# EAGLE library part DP83848C (library MainBoard)
National Semiconductor DP83848C PHYTER Single Port 10/100 Mb/s Ethernet Physical Layer Transceiver. Source: http://cache.national.com/ds/DP/DP83848C.pdf
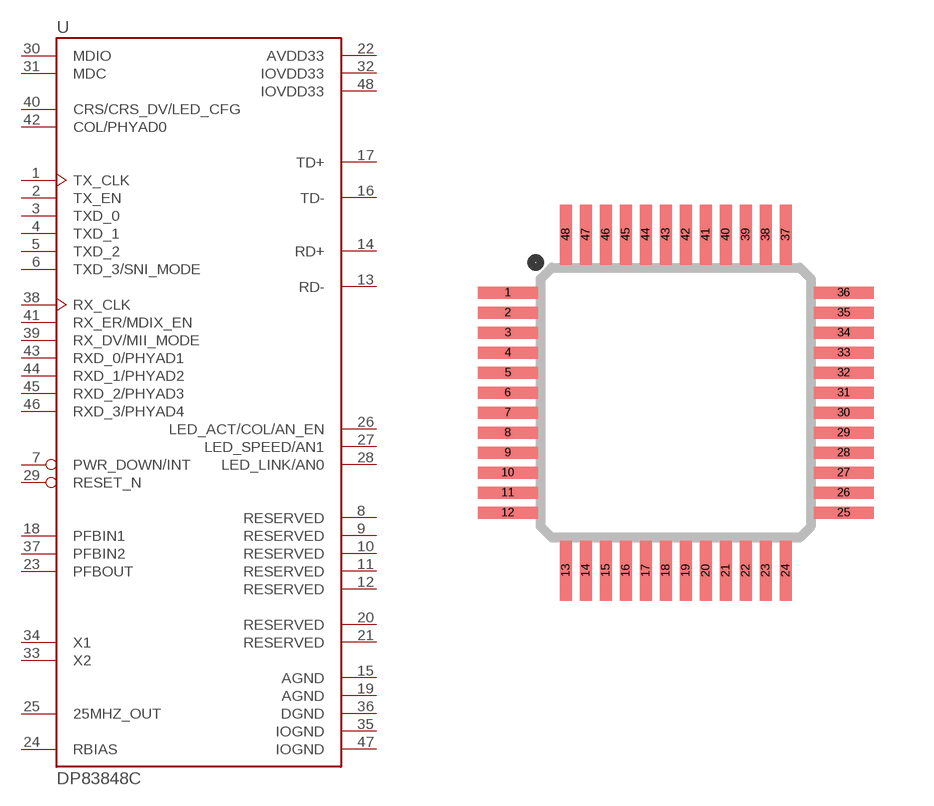
[diagram p13: symbol with the pads of LQFP-48; footprint LQFP-48]

Designator prefix U

## DP83848C-VBH48A (DIGI-KEY#: DP83848CVV-ND; MF: National Semiconductor; MPN: DP83848C)  [LQFP-48]
1  TX_CLK  out
2  TX_EN  in
3  TXD_0  in
4  TXD_1  in
5  TXD_2  in
6  TXD_3/SNI_MODE  in
7  PWR_DOWN/INT
8  RESERVED
9  RESERVED
10  RESERVED
11  RESERVED
12  RESERVED
13  RD-
14  RD+
15  AGND  pwr
16  TD-
17  TD+
18  PFBIN1  in
19  AGND  pwr
20  RESERVED
21  RESERVED
22  AVDD33  pwr
23  PFBOUT  out
24  RBIAS  in
25  25MHZ_OUT  out
26  LED_ACT/COL/AN_EN  out
27  LED_SPEED/AN1  out
28  LED_LINK/AN0  out
29  RESET_N  in
30  MDIO
31  MDC  in
32  IOVDD33  pwr
33  X2  out
34  X1  in
35  IOGND  pwr
36  DGND  pwr
37  PFBIN2  in
38  RX_CLK  out
39  RX_DV/MII_MODE  out
40  CRS/CRS_DV/LED_CFG  out
41  RX_ER/MDIX_EN  out
42  COL/PHYAD0  out
43  RXD_0/PHYAD1  out
44  RXD_1/PHYAD2  out
45  RXD_2/PHYAD3  out
46  RXD_3/PHYAD4  out
47  IOGND  pwr
48  IOVDD33  pwr

## Footprint LQFP-48 (pad centres in mm)
LQFP-48 48-pin LQFP package based on the IPC-7351 standard.
smd 1.5 x 0.3: 1 -4.2,2.75; 2 -4.2,2.25; 3 -4.2,1.75; 4 -4.2,1.25; 5 -4.2,0.75; 6 -4.2,0.25; 7 -4.2,-0.25; 8 -4.2,-0.75; 9 -4.2,-1.25; 10 -4.2,-1.75; 11 -4.2,-2.25; 12 -4.2,-2.75; 25 4.2,-2.75; 26 4.2,-2.25; 27 4.2,-1.75; 28 4.2,-1.25; 29 4.2,-0.75; 30 4.2,-0.25; 31 4.2,0.25; 32 4.2,0.75; 33 4.2,1.25; 34 4.2,1.75; 35 4.2,2.25; 36 4.2,2.75
smd 0.3 x 1.5: 13 -2.75,-4.2; 14 -2.25,-4.2; 15 -1.75,-4.2; 16 -1.25,-4.2; 17 -0.75,-4.2; 18 -0.25,-4.2; 19 0.25,-4.2; 20 0.75,-4.2; 21 1.25,-4.2; 22 1.75,-4.2; 23 2.25,-4.2; 24 2.75,-4.2; 37 2.75,4.2; 38 2.25,4.2; 39 1.75,4.2; 40 1.25,4.2; 41 0.75,4.2; 42 0.25,4.2; 43 -0.25,4.2; 44 -0.75,4.2; 45 -1.25,4.2; 46 -1.75,4.2; 47 -2.25,4.2; 48 -2.75,4.2